# Altium integrated library Transistor.IntLib: 3457 symbols (part 22 of 78)
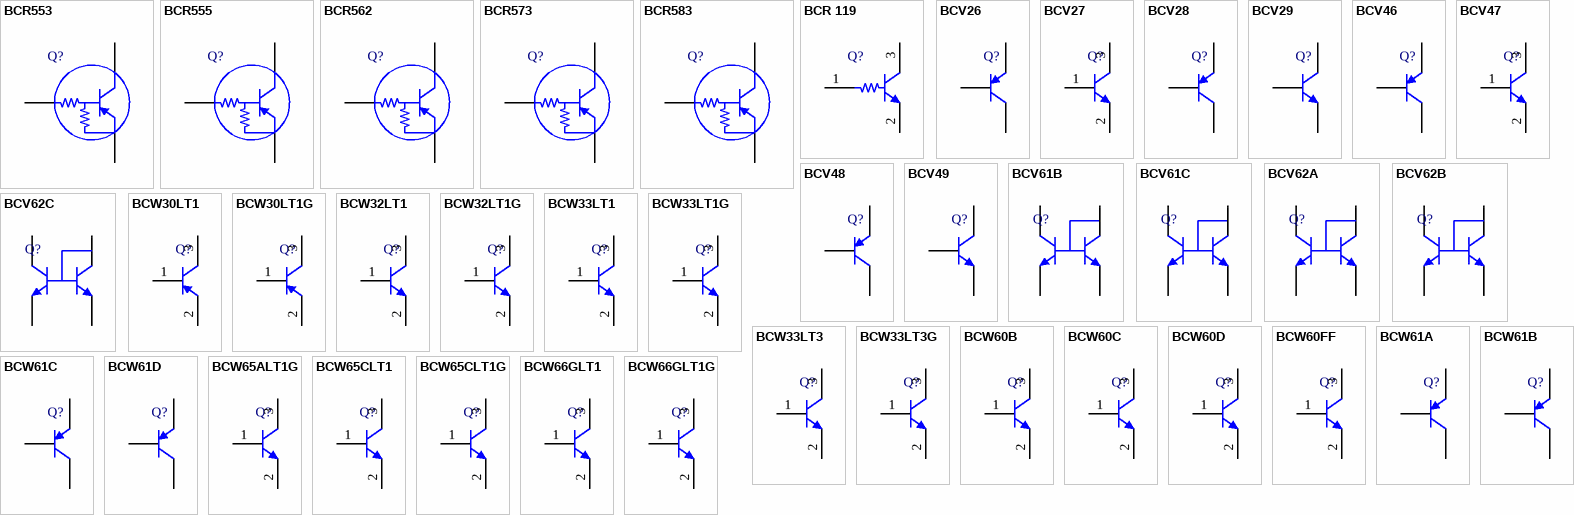
[diagram p115: symbols BCR553 to BCW66GLT1G]

## BCR555
designator Q?
PNP Silicon Digital Transistor, 50 V VCEO, 500 mA IC, SOT23, Reel, Green; Manufacturer: Infineon; PartNumber: BCR555; fT (typ): 150 MHz; Green: TRUE; hFE (min): 70; IC (max): 500 mA; ICBO (max): 100 nA; Ptot (max): 330 mW; R1 (typ): 2.2 kOhm; R2: 10 kOhm; VCBO (max): 50 V; VEBO (max): 5 V; Vi (off) (max): 1 100uA / 5V; Vi (on) (max): 1.4 V; Vi (on) (min): 0.5 10mA / 0.3V; PackageVersion: Apr-08; PackageReference: SOT23; PackageDescription: 3-Pin Small Outline Transistor Package, 1.3 x 2.9 mm Body, 0.95 mm Pitch; Supplier 1: Mouser; Supplier Part Number 1: N/A; Packing: Reel; Polarity: PNP; VCEO (max): 50 V; Mounting Technology: Surface Mount; ComponentLink1Description: Manufacturer URL; ComponentLink1URL: http://www.infineon.com/; ComponentLink2Description: Datasheet; ComponentLink2URL: http://www.infineon.com/dgdl/bcr555.pdf?folderId=db3a30431428a3730114407566730303&fileId=db3a30431428a37301144081dc82030c; ComponentLink3Description: Package Specification; ComponentLink3URL: http://www.infineon.com/dgdl/SOT23-Package_Overview.pdf?folderId=db3a30431936bc4b0119532290053c66&fileId=db3a30431936bc4b0119533468123c85
footprint INF-SOT23_N (SOT23, 3-Leads, Body 2.9x1.3 mm, Pitch 0.95 mm, IPC Medium Density)
footprint INF-SOT23_L (SOT23, 3-Leads, Body 2.9x1.3 mm, Pitch 0.95 mm, IPC High Density)
footprint INF-SOT23_M (SOT23, 3-Leads, Body 2.9x1.3 mm, Pitch 0.95 mm, IPC Low Density)
pins: 1 B, 2 E, 3 C

## BCR562
designator Q?
PNP Silicon Digital Transistor, 50 V VCEO, 500 mA IC, SOT23, Reel, Green; Manufacturer: Infineon; PartNumber: BCR562; fT (typ): 150 MHz; Green: TRUE; hFE (min): 60; IC (max): 500 mA; ICBO (max): 100 nA; Ptot (max): 330 mW; R1 (typ): 4.7 kOhm; VCBO (max): 50 V; VEBO (max): 10 V; Vi (off) (max): 1.5 100uA / 5V; Vi (on) (max): 2.2 V; Vi (on) (min): 1 10mA / 0.3V; PackageVersion: Apr-08; PackageReference: SOT23; PackageDescription: 3-Pin Small Outline Transistor Package, 1.3 x 2.9 mm Body, 0.95 mm Pitch; Supplier 1: Mouser; Supplier Part Number 1: N/A; Packing: Reel; Polarity: PNP; R2: 4.7 kOhm; VCEO (max): 50 V; Mounting Technology: Surface Mount; ComponentLink1Description: Manufacturer URL; ComponentLink1URL: http://www.infineon.com/; ComponentLink2Description: Datasheet; ComponentLink2URL: http://www.infineon.com/dgdl/bcr562.pdf?folderId=db3a30431428a3730114407566730303&fileId=db3a30431428a37301144082f4ed030d; ComponentLink3Description: Package Specification; ComponentLink3URL: http://www.infineon.com/dgdl/SOT23-Package_Overview.pdf?folderId=db3a30431936bc4b0119532290053c66&fileId=db3a30431936bc4b0119533468123c85
footprint INF-SOT23_N (SOT23, 3-Leads, Body 2.9x1.3 mm, Pitch 0.95 mm, IPC Medium Density)
footprint INF-SOT23_L (SOT23, 3-Leads, Body 2.9x1.3 mm, Pitch 0.95 mm, IPC High Density)
footprint INF-SOT23_M (SOT23, 3-Leads, Body 2.9x1.3 mm, Pitch 0.95 mm, IPC Low Density)
pins: 1 B, 2 E, 3 C

## BCR573
designator Q?
PNP Silicon Digital Transistor, 50 V VCEO, 500 mA IC, SOT23, Reel, Green; Manufacturer: Infineon; PartNumber: BCR573; fT (typ): 150 MHz; Green: TRUE; hFE (min): 70; IC (max): 500 mA; ICBO (max): 100 nA; Ptot (max): 330 mW; R1 (typ): 1 kOhm; R2: 10 kOhm; VCBO (max): 50 V; VEBO (max): 5 V; Vi (off) (max): 1 100uA / 5V; Vi (on) (max): 1.4 V; Vi (on) (min): 0.4 10mA / 0.3V; PackageVersion: Apr-08; PackageReference: SOT23; PackageDescription: 3-Pin Small Outline Transistor Package, 1.3 x 2.9 mm Body, 0.95 mm Pitch; Supplier 1: Mouser; Supplier Part Number 1: N/A; Packing: Reel; Polarity: PNP; VCEO (max): 50 V; Mounting Technology: Surface Mount; ComponentLink1Description: Manufacturer URL; ComponentLink1URL: http://www.infineon.com/; ComponentLink2Description: Datasheet; ComponentLink2URL: http://www.infineon.com/dgdl/bcr573.pdf?folderId=db3a30431428a373011440769fd70304&fileId=db3a30431428a373011440841409030e; ComponentLink3Description: Package Specification; ComponentLink3URL: http://www.infineon.com/dgdl/SOT23-Package_Overview.pdf?folderId=db3a30431936bc4b0119532290053c66&fileId=db3a30431936bc4b0119533468123c85
footprint INF-SOT23_N (SOT23, 3-Leads, Body 2.9x1.3 mm, Pitch 0.95 mm, IPC Medium Density)
footprint INF-SOT23_L (SOT23, 3-Leads, Body 2.9x1.3 mm, Pitch 0.95 mm, IPC High Density)
footprint INF-SOT23_M (SOT23, 3-Leads, Body 2.9x1.3 mm, Pitch 0.95 mm, IPC Low Density)
pins: 1 B, 2 E, 3 C

## BCR583
designator Q?
PNP Silicon Digital Transistor, 50 V VCEO, 500 mA IC, SOT23, Reel, Green; Manufacturer: Infineon; PartNumber: BCR583; fT (typ): 150 MHz; Green: TRUE; hFE (min): 70; IC (max): 500 mA; ICBO (max): 100 nA; Ptot (max): 330 mW; R1 (typ): 10 kOhm; VCBO (max): 50 V; VEBO (max): 10 V; Vi (off) (max): 1.5 100uA / 5V; Vi (on) (max): 2.5 V; Vi (on) (min): 1.1 10mA / 0.3V; PackageVersion: Apr-08; PackageReference: SOT23; PackageDescription: 3-Pin Small Outline Transistor Package, 1.3 x 2.9 mm Body, 0.95 mm Pitch; Supplier 1: Mouser; Supplier Part Number 1: N/A; Packing: Reel; Polarity: PNP; R2: 10 kOhm; VCEO (max): 50 V; Mounting Technology: Surface Mount; ComponentLink1Description: Manufacturer URL; ComponentLink1URL: http://www.infineon.com/; ComponentLink2Description: Datasheet; ComponentLink2URL: http://www.infineon.com/dgdl/bcr583.pdf?folderId=db3a30431428a373011440769fd70304&fileId=db3a30431428a3730114408538a1030f; ComponentLink3Description: Package Specification; ComponentLink3URL: http://www.infineon.com/dgdl/SOT23-Package_Overview.pdf?folderId=db3a30431936bc4b0119532290053c66&fileId=db3a30431936bc4b0119533468123c85
footprint INF-SOT23_N (SOT23, 3-Leads, Body 2.9x1.3 mm, Pitch 0.95 mm, IPC Medium Density)
footprint INF-SOT23_L (SOT23, 3-Leads, Body 2.9x1.3 mm, Pitch 0.95 mm, IPC High Density)
footprint INF-SOT23_M (SOT23, 3-Leads, Body 2.9x1.3 mm, Pitch 0.95 mm, IPC Low Density)
pins: 1 B, 2 E, 3 C

## BCR 119
designator Q?
NPN Silicon Digital Transistor, SOT23, Reel, Green; Manufacturer: Infineon; PartNumber: BCR 119; Green: TRUE; hFE (min): 120; PackageVersion: Apr-08; PackageReference: SOT23; PackageDescription: 3-Pin Small Outline Transistor Package, 1.3 x 2.9 mm Body, 0.95 mm Pitch; Halogen-free: FALSE; Polarity: NPN; Mounting Technology: Surface Mount; ComponentLink1Description: Manufacturer URL; ComponentLink1URL: http://www.infineon.com/; ComponentLink2Description: Datasheet; ComponentLink2URL: http://www.infineon.com/dgdl/bcr119series.pdf?folderId=db3a30431400ef68011406f3ddb1012e&fileId=db3a30431428a37301143f643b380286; ComponentLink3Description: Package Specification; ComponentLink3URL: http://www.infineon.com/dgdl/smbta14_mmbta14.pdf?folderId=db3a30431441fb5d011445c30f210183&fileId=db3a30431441fb5d011445ef0201018c
footprint INF-SOT23_N (SOT23, 3-Leads, Body 2.9x1.3 mm, Pitch 0.95 mm, IPC Medium Density)
footprint INF-SOT23_L (SOT23, 3-Leads, Body 2.9x1.3 mm, Pitch 0.95 mm, IPC High Density)
footprint INF-SOT23_M (SOT23, 3-Leads, Body 2.9x1.3 mm, Pitch 0.95 mm, IPC Low Density)
pins: 1 B, 2 E, 3 C

## BCV26
designator Q?
PNP Silicon Darlington Transistor, 30 V VCEO, 500 mA IC, SOT23, Reel, Green; Manufacturer: Infineon; PartNumber: BCV26; fT (typ): 200 MHz; Green: TRUE; hFE (min): 4000; IC: 100 mA; IC (max): 500 mA; ICBO (max): 10 uA; ICM (max): 800 mA; VCBO (max): 40 V; VCE: 5 V; VCEO (max): 30 V; VEBO (max): 10 V; PackageVersion: Apr-08; PackageReference: SOT23; PackageDescription: 3-Pin Small Outline Transistor Package, 1.3 x 2.9 mm Body, 0.95 mm Pitch; Packing: Reel; Polarity: PNP; Mounting Technology: Surface Mount; ComponentLink1Description: Manufacturer URL; ComponentLink1URL: http://www.infineon.com/; ComponentLink2Description: Datasheet; ComponentLink2URL: http://www.infineon.com/dgdl/bcv26_bcv46.pdf?folderId=db3a30431441fb5d011445c30f210183&fileId=db3a30431441fb5d011445cddad90187; ComponentLink3Description: Package Specification; ComponentLink3URL: http://www.infineon.com/dgdl/SOT23-Package_Overview.pdf?folderId=db3a30431936bc4b0119532290053c66&fileId=db3a30431936bc4b0119533468123c85
footprint INF-SOT23_N (SOT23, 3-Leads, Body 2.9x1.3 mm, Pitch 0.95 mm, IPC Medium Density)
footprint INF-SOT23_L (SOT23, 3-Leads, Body 2.9x1.3 mm, Pitch 0.95 mm, IPC High Density)
footprint INF-SOT23_M (SOT23, 3-Leads, Body 2.9x1.3 mm, Pitch 0.95 mm, IPC Low Density)
pins: 1 B, 2 E, 3 C

## BCV27
designator Q?
NPN Silicon Darlington Transistor, 30 V VCEO, 500 mA IC, SOT23, Reel, Green; Manufacturer: Infineon; PartNumber: BCV27; fT (typ): 170 MHz; Green: TRUE; hFE (min): 4000; IC: 100 mA; IC (max): 500 mA; ICBO (max): 10 uA; ICM (max): 800 mA; VCBO (max): 40 V; VCE: 5 V; VCEO (max): 30 V; VEBO (max): 10 V; PackageVersion: Apr-08; PackageReference: SOT23; PackageDescription: 3-Pin Small Outline Transistor Package, 1.3 x 2.9 mm Body, 0.95 mm Pitch; Packing: Reel; Polarity: NPN; Mounting Technology: Surface Mount; ComponentLink1Description: Manufacturer URL; ComponentLink1URL: http://www.infineon.com/; ComponentLink2Description: Datasheet; ComponentLink2URL: http://www.infineon.com/dgdl/bcv27_bcv47.pdf?folderId=db3a30431441fb5d011445c30f210183&fileId=db3a30431441fb5d011445cf7c3b0188; ComponentLink3Description: Package Specification; ComponentLink3URL: http://www.infineon.com/dgdl/SOT23-Package_Overview.pdf?folderId=db3a30431936bc4b0119532290053c66&fileId=db3a30431936bc4b0119533468123c85
footprint INF-SOT23_N (SOT23, 3-Leads, Body 2.9x1.3 mm, Pitch 0.95 mm, IPC Medium Density)
footprint INF-SOT23_L (SOT23, 3-Leads, Body 2.9x1.3 mm, Pitch 0.95 mm, IPC High Density)
footprint INF-SOT23_M (SOT23, 3-Leads, Body 2.9x1.3 mm, Pitch 0.95 mm, IPC Low Density)
pins: 1 B, 2 E, 3 C

## BCV28
designator Q?
PNP Silicon Darlington Transistor, 30 V VCEO, 500 mA IC, SOT89, Reel, Green; Manufacturer: Infineon; PartNumber: BCV28; fT (typ): 200 MHz; Green: TRUE; hFE (min): 4000; IC: 100 mA; IC (max): 500 mA; ICBO (max): 10 uA; ICM (max): 800 mA; VCBO (max): 40 V; VCE: 5 V; VCEO (max): 30 V; VEBO (max): 10 V; PackageVersion: Apr-08; PackageReference: SOT89 (SC-62); PackageDescription: 3-Pin Small Outline Transistor Package, 4.5 x 2.5 mm Body, 1.5 mm Pitch; Packing: Reel; Polarity: PNP; Mounting Technology: Surface Mount; ComponentLink1Description: Manufacturer URL; ComponentLink1URL: http://www.infineon.com/; ComponentLink2Description: Datasheet; ComponentLink2URL: http://www.infineon.com/dgdl/bcv28_bcv48.pdf?folderId=db3a30431441fb5d011445c30f210183&fileId=db3a30431441fb5d011445c71a9d0185; ComponentLink3Description: Package Specification; ComponentLink3URL: http://www.infineon.com/dgdl/SOT89-Package_Overview.pdf?folderId=db3a30431936bc4b01195371b8363cff&fileId=db3a30431936bc4b0119537ed61d3d22
footprint INF-SOT89_SC-62_N (SOT89, 3-Leads, Body 4.5x2.5mm, Pitch 1.5mm, IPC Medium Density)
footprint INF-SOT89_SC-62_L (SOT89, 3-Leads, Body 4.5x2.5mm, Pitch 1.5mm, IPC High Density)
footprint INF-SOT89_SC-62_M (SOT89, 3-Leads, Body 4.5x2.5mm, Pitch 1.5mm, IPC Low Density)
pins: 1 B, 2 C, 3 E

## BCV29
designator Q?
NPN Silicon Darlington Transistor, 30 V VCEO, 500 mA IC, SOT89, Reel, Green; Manufacturer: Infineon; PartNumber: BCV29; fT (typ): 150 MHz; Green: TRUE; hFE (min): 4000; IC: 100 mA; IC (max): 500 mA; ICBO (max): 10 uA; ICM (max): 800 mA; VCBO (max): 40 V; VCE: 5 V; VCEO (max): 30 V; VEBO (max): 10 V; PackageVersion: Apr-08; PackageReference: SOT89 (SC-62); PackageDescription: 3-Pin Small Outline Transistor Package, 4.5 x 2.5 mm Body, 1.5 mm Pitch; Packing: Reel; Polarity: NPN; Mounting Technology: Surface Mount; ComponentLink1Description: Manufacturer URL; ComponentLink1URL: http://www.infineon.com/; ComponentLink2Description: Datasheet; ComponentLink2URL: http://www.infineon.com/dgdl/bcv29_bcv49.pdf?folderId=db3a30431441fb5d011445c30f210183&fileId=db3a30431441fb5d011445c8b0d30186; ComponentLink3Description: Package Specification; ComponentLink3URL: http://www.infineon.com/dgdl/SOT89-Package_Overview.pdf?folderId=db3a30431936bc4b01195371b8363cff&fileId=db3a30431936bc4b0119537ed61d3d22
footprint INF-SOT89_SC-62_N (SOT89, 3-Leads, Body 4.5x2.5mm, Pitch 1.5mm, IPC Medium Density)
footprint INF-SOT89_SC-62_L (SOT89, 3-Leads, Body 4.5x2.5mm, Pitch 1.5mm, IPC High Density)
footprint INF-SOT89_SC-62_M (SOT89, 3-Leads, Body 4.5x2.5mm, Pitch 1.5mm, IPC Low Density)
pins: 1 B, 2 C, 3 E

## BCV46
designator Q?
PNP Silicon Darlington Transistor, 60 V VCEO, 500 mA IC, SOT23, Reel, Green; Manufacturer: Infineon; PartNumber: BCV46; fT (typ): 200 MHz; Green: TRUE; hFE (min): 2000; IC: 100 mA; IC (max): 500 mA; ICBO (max): 10 uA; ICM (max): 800 mA; VCBO (max): 80 V; VCE: 5 V; VCEO (max): 60 V; VEBO (max): 10 V; PackageVersion: Apr-08; PackageReference: SOT23; PackageDescription: 3-Pin Small Outline Transistor Package, 1.3 x 2.9 mm Body, 0.95 mm Pitch; Packing: Reel; Polarity: PNP; Mounting Technology: Surface Mount; ComponentLink1Description: Manufacturer URL; ComponentLink1URL: http://www.infineon.com/; ComponentLink2Description: Datasheet; ComponentLink2URL: http://www.infineon.com/dgdl/bcv26_bcv46.pdf?folderId=db3a30431441fb5d011445c30f210183&fileId=db3a30431441fb5d011445cddad90187; ComponentLink3Description: Package Specification; ComponentLink3URL: http://www.infineon.com/dgdl/SOT23-Package_Overview.pdf?folderId=db3a30431936bc4b0119532290053c66&fileId=db3a30431936bc4b0119533468123c85
footprint INF-SOT23_N (SOT23, 3-Leads, Body 2.9x1.3 mm, Pitch 0.95 mm, IPC Medium Density)
footprint INF-SOT23_L (SOT23, 3-Leads, Body 2.9x1.3 mm, Pitch 0.95 mm, IPC High Density)
footprint INF-SOT23_M (SOT23, 3-Leads, Body 2.9x1.3 mm, Pitch 0.95 mm, IPC Low Density)
pins: 1 B, 2 E, 3 C

## BCV47
designator Q?
NPN Silicon Darlington Transistor, 60 V VCEO, 500 mA IC, SOT23, Reel, Green; Manufacturer: Infineon; PartNumber: BCV47; fT (typ): 170 MHz; Green: TRUE; hFE (min): 2000; IC: 100 mA; IC (max): 500 mA; ICBO (max): 10 uA; ICM (max): 800 mA; VCBO (max): 80 V; VCE: 5 V; VCEO (max): 60 V; VEBO (max): 10 V; PackageVersion: Apr-08; PackageReference: SOT23; PackageDescription: 3-Pin Small Outline Transistor Package, 1.3 x 2.9 mm Body, 0.95 mm Pitch; Packing: Reel; Polarity: NPN; Mounting Technology: Surface Mount; ComponentLink1Description: Manufacturer URL; ComponentLink1URL: http://www.infineon.com/; ComponentLink2Description: Datasheet; ComponentLink2URL: http://www.infineon.com/dgdl/bcv27_bcv47.pdf?folderId=db3a30431441fb5d011445c30f210183&fileId=db3a30431441fb5d011445cf7c3b0188; ComponentLink3Description: Package Specification; ComponentLink3URL: http://www.infineon.com/dgdl/SOT23-Package_Overview.pdf?folderId=db3a30431936bc4b0119532290053c66&fileId=db3a30431936bc4b0119533468123c85
footprint INF-SOT23_N (SOT23, 3-Leads, Body 2.9x1.3 mm, Pitch 0.95 mm, IPC Medium Density)
footprint INF-SOT23_L (SOT23, 3-Leads, Body 2.9x1.3 mm, Pitch 0.95 mm, IPC High Density)
footprint INF-SOT23_M (SOT23, 3-Leads, Body 2.9x1.3 mm, Pitch 0.95 mm, IPC Low Density)
pins: 1 B, 2 E, 3 C

## BCV48
designator Q?
PNP Silicon Darlington Transistor, 60 V VCEO, 500 mA IC, SOT89, Reel, Green; Manufacturer: Infineon; PartNumber: BCV48; fT (typ): 200 MHz; Green: TRUE; hFE (min): 2000; IC: 100 mA; IC (max): 500 mA; ICBO (max): 10 uA; ICM (max): 800 mA; VCBO (max): 80 V; VCE: 5 V; VCEO (max): 60 V; VEBO (max): 10 V; PackageVersion: Apr-08; PackageReference: SOT89 (SC-62); PackageDescription: 3-Pin Small Outline Transistor Package, 4.5 x 2.5 mm Body, 1.5 mm Pitch; Packing: Reel; Polarity: PNP; Mounting Technology: Surface Mount; ComponentLink1Description: Manufacturer URL; ComponentLink1URL: http://www.infineon.com/; ComponentLink2Description: Datasheet; ComponentLink2URL: http://www.infineon.com/dgdl/bcv28_bcv48.pdf?folderId=db3a30431441fb5d011445c30f210183&fileId=db3a30431441fb5d011445c71a9d0185; ComponentLink3Description: Package Specification; ComponentLink3URL: http://www.infineon.com/dgdl/SOT89-Package_Overview.pdf?folderId=db3a30431936bc4b01195371b8363cff&fileId=db3a30431936bc4b0119537ed61d3d22
footprint INF-SOT89_SC-62_N (SOT89, 3-Leads, Body 4.5x2.5mm, Pitch 1.5mm, IPC Medium Density)
footprint INF-SOT89_SC-62_L (SOT89, 3-Leads, Body 4.5x2.5mm, Pitch 1.5mm, IPC High Density)
footprint INF-SOT89_SC-62_M (SOT89, 3-Leads, Body 4.5x2.5mm, Pitch 1.5mm, IPC Low Density)
pins: 1 B, 2 C, 3 E

## BCV49
designator Q?
NPN Silicon Darlington Transistor, 60 V VCEO, 500 mA IC, SOT89, Reel, Green; Manufacturer: Infineon; PartNumber: BCV49; fT (typ): 150 MHz; Green: TRUE; hFE (min): 2000; IC: 100 mA; IC (max): 500 mA; ICBO (max): 10 uA; ICM (max): 800 mA; VCBO (max): 80 V; VCE: 5 V; VCEO (max): 60 V; VEBO (max): 10 V; PackageVersion: Apr-08; PackageReference: SOT89 (SC-62); PackageDescription: 3-Pin Small Outline Transistor Package, 4.5 x 2.5 mm Body, 1.5 mm Pitch; Packing: Reel; Polarity: NPN; Mounting Technology: Surface Mount; ComponentLink1Description: Manufacturer URL; ComponentLink1URL: http://www.infineon.com/; ComponentLink2Description: Datasheet; ComponentLink2URL: http://www.infineon.com/dgdl/bcv29_bcv49.pdf?folderId=db3a30431441fb5d011445c30f210183&fileId=db3a30431441fb5d011445c8b0d30186; ComponentLink3Description: Package Specification; ComponentLink3URL: http://www.infineon.com/dgdl/SOT89-Package_Overview.pdf?folderId=db3a30431936bc4b01195371b8363cff&fileId=db3a30431936bc4b0119537ed61d3d22
footprint INF-SOT89_SC-62_N (SOT89, 3-Leads, Body 4.5x2.5mm, Pitch 1.5mm, IPC Medium Density)
footprint INF-SOT89_SC-62_L (SOT89, 3-Leads, Body 4.5x2.5mm, Pitch 1.5mm, IPC High Density)
footprint INF-SOT89_SC-62_M (SOT89, 3-Leads, Body 4.5x2.5mm, Pitch 1.5mm, IPC Low Density)
pins: 1 B, 2 C, 3 E

## BCV61B
designator Q?
NPN Silicon Double Transistor, 30 V VCEO, 100 mA IC, SOT143-4-1, Reel, Green; Manufacturer: Infineon; PartNumber: BCV61B; fT (typ): 250 MHz; Green: TRUE; IC: 2 mA; IC (max): 100 mA; ICBO (max): 15 nA; ICM (max): 200 mA; Ptot (max): 300 mW; VCBO (max): 30 V; VCE: 5 V; VEBO (max): 6 V; PackageReference: SOT143-4-1; PackageDescription: 4-Pin Small Outline Transistor Package, 1.3 x 2.9 mm Body; Packing: Reel; Polarity: NPN; VCE (max): 5 V; VCEO (max): 30 V; Mounting Technology: Surface Mount; ComponentLink1Description: Manufacturer URL; ComponentLink1URL: http://www.infineon.com/; ComponentLink2Description: Datasheet; ComponentLink2URL: http://www.infineon.com/dgdl/bcv61.pdf?folderId=db3a30431441fb5d0114498f7eab01ce&fileId=db3a30431441fb5d011449d8ff720246; ComponentLink3Description: Package Specification; ComponentLink3URL: http://www.infineon.com/dgdl/SOT143-Package_Overview.pdf?folderId=db3a30431936bc4b011952ce8b1b3bed&fileId=db3a30431936bc4b011952df42203c0c
footprint INF-SOT143-4-1_V (SOT143, 4-Leads, Body 2.9x1.3 mm)
pins: 1 C2, 2 C1, 3 E1, 4 E2

## BCV61C
designator Q?
NPN Silicon Double Transistor, 30 V VCEO, 100 mA IC, SOT143-4-1, Reel, Green; Manufacturer: Infineon; PartNumber: BCV61C; fT (typ): 250 MHz; Green: TRUE; IC: 2 mA; IC (max): 100 mA; ICBO (max): 15 nA; ICM (max): 200 mA; Ptot (max): 300 mW; VCBO (max): 30 V; VCE: 5 V; VEBO (max): 6 V; PackageReference: SOT143-4-1; PackageDescription: 4-Pin Small Outline Transistor Package, 1.3 x 2.9 mm Body; Supplier 1: Newark; Supplier Part Number 1: 25M7679; Supplier 2: Farnell; Supplier Part Number 2: 1056514; Supplier 3: Farnell; Supplier Part Number 3: 1056514RL; Packing: Reel; Polarity: NPN; VCE (max): 5 V; VCEO (max): 30 V; Mounting Technology: Surface Mount; ComponentLink1Description: Manufacturer URL; ComponentLink1URL: http://www.infineon.com/; ComponentLink2Description: Datasheet; ComponentLink2URL: http://www.infineon.com/dgdl/bcv61.pdf?folderId=db3a30431441fb5d0114498f7eab01ce&fileId=db3a30431441fb5d011449d8ff720246; ComponentLink3Description: Package Specification; ComponentLink3URL: http://www.infineon.com/dgdl/SOT143-Package_Overview.pdf?folderId=db3a30431936bc4b011952ce8b1b3bed&fileId=db3a30431936bc4b011952df42203c0c
footprint INF-SOT143-4-1_V (SOT143, 4-Leads, Body 2.9x1.3 mm)
pins: 1 C2, 2 C1, 3 E1, 4 E2

## BCV62A
designator Q?
PNP Silicon Double Transistor, 30 V VCEO, 100 mA IC, SOT143-4-1, Reel, Green; Manufacturer: Infineon; PartNumber: BCV62A; fT (typ): 250 MHz; Green: TRUE; IC: 2 mA; IC (max): 100 mA; ICBO (max): 15 nA; ICM (max): 200 mA; Ptot (max): 300 mW; VCBO (max): 30 V; VCE: 5 V; VEBO (max): 6 V; PackageReference: SOT143-4-1; PackageDescription: 4-Pin Small Outline Transistor Package, 1.3 x 2.9 mm Body; Packing: Reel; Polarity: PNP; VCE (max): 5 V; VCEO (max): 30 V; Mounting Technology: Surface Mount; ComponentLink1Description: Manufacturer URL; ComponentLink1URL: http://www.infineon.com/; ComponentLink2Description: Datasheet; ComponentLink2URL: http://www.infineon.com/dgdl/bcv62.pdf?folderId=db3a30431441fb5d0114498f7eab01ce&fileId=db3a30431441fb5d011449a5795f0230; ComponentLink3Description: Package Specification; ComponentLink3URL: http://www.infineon.com/dgdl/SOT143-Package_Overview.pdf?folderId=db3a30431936bc4b011952ce8b1b3bed&fileId=db3a30431936bc4b011952df42203c0c
footprint INF-SOT143-4-1_V (SOT143, 4-Leads, Body 2.9x1.3 mm)
pins: 1 C2, 2 C1, 3 E1, 4 E2

## BCV62B
designator Q?
PNP Silicon Double Transistor, 30 V VCEO, 100 mA IC, SOT143-4-1, Reel, Green; Manufacturer: Infineon; PartNumber: BCV62B; fT (typ): 250 MHz; Green: TRUE; IC: 2 mA; IC (max): 100 mA; ICBO (max): 15 nA; ICM (max): 200 mA; Ptot (max): 300 mW; VCBO (max): 30 V; VCE: 5 V; VEBO (max): 6 V; PackageReference: SOT143-4-1; PackageDescription: 4-Pin Small Outline Transistor Package, 1.3 x 2.9 mm Body; Packing: Reel; Polarity: PNP; VCE (max): 5 V; VCEO (max): 30 V; Mounting Technology: Surface Mount; ComponentLink1Description: Manufacturer URL; ComponentLink1URL: http://www.infineon.com/; ComponentLink2Description: Datasheet; ComponentLink2URL: http://www.infineon.com/dgdl/bcv62.pdf?folderId=db3a30431441fb5d0114498f7eab01ce&fileId=db3a30431441fb5d011449a5795f0230; ComponentLink3Description: Package Specification; ComponentLink3URL: http://www.infineon.com/dgdl/SOT143-Package_Overview.pdf?folderId=db3a30431936bc4b011952ce8b1b3bed&fileId=db3a30431936bc4b011952df42203c0c
footprint INF-SOT143-4-1_V (SOT143, 4-Leads, Body 2.9x1.3 mm)
pins: 1 C2, 2 C1, 3 E1, 4 E2

## BCV62C
designator Q?
PNP Silicon Double Transistor, 30 V VCEO, 100 mA IC, SOT143-4-1, Reel, Green; Manufacturer: Infineon; PartNumber: BCV62C; fT (typ): 250 MHz; Green: TRUE; IC: 100 mA; ICBO (max): 15 nA; ICM (max): 200 mA; Ptot (max): 300 mV; VCBO (max): 30 V; VCE: 5 V; VEBO (max): 6 V; PackageReference: SOT143-4-1; PackageDescription: 4-Pin Small Outline Transistor Package, 1.3 x 2.9 mm Body; Supplier 1: Newark; Supplier Part Number 1: 25M7681; Supplier 2: Farnell; Supplier Part Number 2: 1056515RL; Supplier 3: Farnell; Supplier Part Number 3: 1056515; IC (max): 100 mA; Packing: Reel; Polarity: PNP; VCE (max): 5 V; VCEO (max): 30 V; Mounting Technology: Surface Mount; ComponentLink1Description: Manufacturer URL; ComponentLink1URL: http://www.infineon.com/; ComponentLink2Description: Datasheet; ComponentLink2URL: http://www.infineon.com/dgdl/bcv62.pdf?folderId=db3a30431441fb5d0114498f7eab01ce&fileId=db3a30431441fb5d011449a5795f0230; ComponentLink3Description: Package Specification; ComponentLink3URL: http://www.infineon.com/dgdl/SOT143-Package_Overview.pdf?folderId=db3a30431936bc4b011952ce8b1b3bed&fileId=db3a30431936bc4b011952df42203c0c
footprint INF-SOT143-4-1_V (SOT143, 4-Leads, Body 2.9x1.3 mm)
pins: 1 C2, 2 C1, 3 E1, 4 E2

## BCW30LT1
designator Q?
General Purpose Transistor, PNP Silicon, 3-Pin SOT-23, Tape and Reel; Manufacturer: On Semiconductor; PartNumber: BCW30LT1; Note: 0; IC Continuous (A): -0.1; DatasheetVersion: Rev. 3; PackageVersion: Rev. AP, 11/2009; PackageReference: SOT-23-3-318-08; PackageDescription: 3-Pin Small Outline Transistor, Body 2.92 x 1.3 mm, Pitch 0.95 mm; Packing: Tape and Reel; Polarity: PNP; RoHS: FALSE; Mounting Technology: Surface Mount; ComponentLink1Description: Manufacturer URL; ComponentLink1URL: http://www.onsemi.com/; ComponentLink2Description: Datasheet; ComponentLink2URL: http://www.onsemi.com/pub_link/Collateral/BCW30LT1-D.PDF; ComponentLink3Description: Package Specification; ComponentLink3URL: http://www.onsemi.cn/pub_link/Collateral/318-08.PDF
footprint ONSC-SOT-23-3-318-08_V (SOT23, 3-Leads, Body 2.92x1.3mm, Pitch 0.95mm)
pins: 1 B, 2 E, 3 C

## BCW30LT1G
designator Q?
General Purpose Transistor, PNP Silicon, 3-Pin SOT-23, Pb-Free, Tape and Reel; Manufacturer: On Semiconductor; PartNumber: BCW30LT1G; IC Continuous (A): -0.1; DatasheetVersion: Rev. 3; PackageVersion: Rev. AP, 11/2009; PackageReference: SOT-23-3-318-08; PackageDescription: 3-Pin Small Outline Transistor, Body 2.92 x 1.3 mm, Pitch 0.95 mm; Supplier 1: Digi-Key; Supplier Part Number 1: BCW30LT1GOSTR-ND; Supplier 2: Digi-Key; Supplier Part Number 2: BCW30LT1GOSCT-ND; Supplier 3: Digi-Key; Supplier Part Number 3: BCW30LT1GOSDKR-ND; Supplier 4: Newark; Supplier Part Number 4: 83H6424; Supplier 5: Mouser; Supplier Part Number 5: 863-BCW30LT1G; Packing: Tape and Reel; Polarity: PNP; RoHS: TRUE; Mounting Technology: Surface Mount; ComponentLink1Description: Manufacturer URL; ComponentLink1URL: http://www.onsemi.com/; ComponentLink2Description: Datasheet; ComponentLink2URL: http://www.onsemi.com/pub_link/Collateral/BCW30LT1-D.PDF; ComponentLink3Description: Package Specification; ComponentLink3URL: http://www.onsemi.cn/pub_link/Collateral/318-08.PDF
footprint ONSC-SOT-23-3-318-08_V (SOT23, 3-Leads, Body 2.92x1.3mm, Pitch 0.95mm)
pins: 1 B, 2 E, 3 C

## BCW32LT1
designator Q?
General Purpose Transistor, NPN Silicon, 3-Pin SOT-23, Tape and Reel; Manufacturer: On Semiconductor; PartNumber: BCW32LT1; Note: 0; IC Continuous (A): 0.1; DatasheetVersion: Rev. 2; PackageVersion: Rev. AP, 11/2009; PackageReference: SOT-23-3-318-08; PackageDescription: 3-Pin Small Outline Transistor, Body 2.92 x 1.3 mm, Pitch 0.95 mm; Packing: Tape and Reel; Polarity: NPN; RoHS: FALSE; Mounting Technology: Surface Mount; ComponentLink1Description: Manufacturer URL; ComponentLink1URL: http://www.onsemi.com/; ComponentLink2Description: Datasheet; ComponentLink2URL: http://www.onsemi.com/pub_link/Collateral/BCW32LT1-D.PDF; ComponentLink3Description: Package Specification; ComponentLink3URL: http://www.onsemi.cn/pub_link/Collateral/318-08.PDF
footprint ONSC-SOT-23-3-318-08_V (SOT23, 3-Leads, Body 2.92x1.3mm, Pitch 0.95mm)
pins: 1 B, 2 E, 3 C

## BCW32LT1G
designator Q?
General Purpose Transistor, NPN Silicon, 3-Pin SOT-23, Pb-Free, Tape and Reel; Manufacturer: On Semiconductor; PartNumber: BCW32LT1G; IC Continuous (A): 0.1; DatasheetVersion: Rev. 2; PackageVersion: Rev. AP, 11/2009; PackageReference: SOT-23-3-318-08; PackageDescription: 3-Pin Small Outline Transistor, Body 2.92 x 1.3 mm, Pitch 0.95 mm; Supplier 1: Digi-Key; Supplier Part Number 1: BCW32LT1GOSTR-ND; Supplier 2: Digi-Key; Supplier Part Number 2: BCW32LT1GOSCT-ND; Supplier 3: Digi-Key; Supplier Part Number 3: BCW32LT1GOSDKR-ND; Supplier 4: Newark; Supplier Part Number 4: 50M2870; Supplier 5: Mouser; Supplier Part Number 5: 863-BCW32LT1G; Packing: Tape and Reel; Polarity: NPN; RoHS: TRUE; Mounting Technology: Surface Mount; ComponentLink1Description: Manufacturer URL; ComponentLink1URL: http://www.onsemi.com/; ComponentLink2Description: Datasheet; ComponentLink2URL: http://www.onsemi.com/pub_link/Collateral/BCW32LT1-D.PDF; ComponentLink3Description: Package Specification; ComponentLink3URL: http://www.onsemi.cn/pub_link/Collateral/318-08.PDF
footprint ONSC-SOT-23-3-318-08_V (SOT23, 3-Leads, Body 2.92x1.3mm, Pitch 0.95mm)
pins: 1 B, 2 E, 3 C

## BCW33LT1
designator Q?
General Purpose Transistor, NPN Silicon, 3-Pin SOT-23, Tape and Reel; Manufacturer: On Semiconductor; PartNumber: BCW33LT1; IC Continuous (A): 0.1; DatasheetVersion: Rev. 5; PackageVersion: Rev. AP, 11/2009; PackageReference: SOT-23-3-318-08; PackageDescription: 3-Pin Small Outline Transistor, Body 2.92 x 1.3 mm, Pitch 0.95 mm; Supplier 1: Digi-Key; Supplier Part Number 1: BCW33LT1-ND; Packing: Tape and Reel; Polarity: NPN; RoHS: FALSE; Mounting Technology: Surface Mount; ComponentLink1Description: Manufacturer URL; ComponentLink1URL: http://www.onsemi.com/; ComponentLink2Description: Datasheet; ComponentLink2URL: http://www.onsemi.com/pub_link/Collateral/BCW33LT1-D.PDF; ComponentLink3Description: Package Specification; ComponentLink3URL: http://www.onsemi.cn/pub_link/Collateral/318-08.PDF
footprint ONSC-SOT-23-3-318-08_V (SOT23, 3-Leads, Body 2.92x1.3mm, Pitch 0.95mm)
pins: 1 B, 2 E, 3 C

## BCW33LT1G
designator Q?
General Purpose Transistor, NPN Silicon, 3-Pin SOT-23, Pb-Free, Tape and Reel; Manufacturer: On Semiconductor; PartNumber: BCW33LT1G; IC Continuous (A): 0.1; DatasheetVersion: Rev. 5; PackageVersion: Rev. AP, 11/2009; PackageReference: SOT-23-3-318-08; PackageDescription: 3-Pin Small Outline Transistor, Body 2.92 x 1.3 mm, Pitch 0.95 mm; Supplier 1: Digi-Key; Supplier Part Number 1: BCW33LT1GOSTR-ND; Supplier 2: Digi-Key; Supplier Part Number 2: BCW33LT1GOSCT-ND; Supplier 3: Digi-Key; Supplier Part Number 3: BCW33LT1GOSDKR-ND; Supplier 4: Newark; Supplier Part Number 4: 26K3374; Supplier 5: Mouser; Supplier Part Number 5: 863-BCW33LT1G; Packing: Tape and Reel; Polarity: NPN; RoHS: TRUE; Mounting Technology: Surface Mount; ComponentLink1Description: Manufacturer URL; ComponentLink1URL: http://www.onsemi.com/; ComponentLink2Description: Datasheet; ComponentLink2URL: http://www.onsemi.com/pub_link/Collateral/BCW33LT1-D.PDF; ComponentLink3Description: Package Specification; ComponentLink3URL: http://www.onsemi.cn/pub_link/Collateral/318-08.PDF
footprint ONSC-SOT-23-3-318-08_V (SOT23, 3-Leads, Body 2.92x1.3mm, Pitch 0.95mm)
pins: 1 B, 2 E, 3 C

## BCW33LT3
designator Q?
General Purpose Transistor, NPN Silicon, 3-Pin SOT-23, Tape and Reel; Manufacturer: On Semiconductor; PartNumber: BCW33LT3; IC Continuous (A): 0.1; DatasheetVersion: Rev. 5; PackageVersion: Rev. AP, 11/2009; PackageReference: SOT-23-3-318-08; PackageDescription: 3-Pin Small Outline Transistor, Body 2.92 x 1.3 mm, Pitch 0.95 mm; Supplier 1: Mouser; Supplier Part Number 1: 863-BCW33LT3; Packing: Tape and Reel; Polarity: NPN; RoHS: FALSE; Mounting Technology: Surface Mount; ComponentLink1Description: Manufacturer URL; ComponentLink1URL: http://www.onsemi.com/; ComponentLink2Description: Datasheet; ComponentLink2URL: http://www.onsemi.com/pub_link/Collateral/BCW33LT1-D.PDF; ComponentLink3Description: Package Specification; ComponentLink3URL: http://www.onsemi.cn/pub_link/Collateral/318-08.PDF
footprint ONSC-SOT-23-3-318-08_V (SOT23, 3-Leads, Body 2.92x1.3mm, Pitch 0.95mm)
pins: 1 B, 2 E, 3 C

## BCW33LT3G
designator Q?
General Purpose Transistor, NPN Silicon, 3-Pin SOT-23, Pb-Free, Tape and Reel; Manufacturer: On Semiconductor; PartNumber: BCW33LT3G; IC Continuous (A): 0.1; DatasheetVersion: Rev. 5; PackageVersion: Rev. AP, 11/2009; PackageReference: SOT-23-3-318-08; PackageDescription: 3-Pin Small Outline Transistor, Body 2.92 x 1.3 mm, Pitch 0.95 mm; Supplier 1: Digi-Key; Supplier Part Number 1: BCW33LT3G-ND; Supplier 2: Mouser; Supplier Part Number 2: 863-BCW33LT3G; Packing: Tape and Reel; Polarity: NPN; RoHS: TRUE; Mounting Technology: Surface Mount; ComponentLink1Description: Manufacturer URL; ComponentLink1URL: http://www.onsemi.com/; ComponentLink2Description: Datasheet; ComponentLink2URL: http://www.onsemi.com/pub_link/Collateral/BCW33LT1-D.PDF; ComponentLink3Description: Package Specification; ComponentLink3URL: http://www.onsemi.cn/pub_link/Collateral/318-08.PDF
footprint ONSC-SOT-23-3-318-08_V (SOT23, 3-Leads, Body 2.92x1.3mm, Pitch 0.95mm)
pins: 1 B, 2 E, 3 C

## BCW60B
designator Q?
NPN Silicon AF Transistor, 32 V VCEO, 100 mA IC, SOT23, Reel, Green; Manufacturer: Infineon; PartNumber: BCW60B; F (typ): 2 dB; fT (typ): 250 MHz; Green: TRUE; IBM (max): 200 mA; IC (max): 100 mA; ICBO (max): 20 nA; Ptot (max): 330 mW; VCBO (max): 32 V; VEBO (max): 6 V; PackageVersion: Apr-08; PackageReference: SOT23; PackageDescription: 3-Pin Small Outline Transistor Package, 1.3 x 2.9 mm Body, 0.95 mm Pitch; ICM (max): 200 mA; Packing: Reel; Polarity: NPN; VCEO (max): 32 V; Mounting Technology: Surface Mount; ComponentLink1Description: Manufacturer URL; ComponentLink1URL: http://www.infineon.com/; ComponentLink2Description: Datasheet; ComponentLink2URL: http://www.infineon.com/dgdl/bcw60_bcx70.pdf?folderId=db3a30431f848401011fcbf2ab4c04c4&fileId=db3a30432f91014f012fb516e6041665; ComponentLink3Description: Package Specification; ComponentLink3URL: http://www.infineon.com/dgdl/SOT23-Package_Overview.pdf?folderId=db3a30431936bc4b0119532290053c66&fileId=db3a30431936bc4b0119533468123c85
footprint INF-SOT23_N (SOT23, 3-Leads, Body 2.9x1.3 mm, Pitch 0.95 mm, IPC Medium Density)
footprint INF-SOT23_L (SOT23, 3-Leads, Body 2.9x1.3 mm, Pitch 0.95 mm, IPC High Density)
footprint INF-SOT23_M (SOT23, 3-Leads, Body 2.9x1.3 mm, Pitch 0.95 mm, IPC Low Density)
pins: 1 B, 2 E, 3 C

## BCW60C
designator Q?
NPN Silicon AF Transistor, 32 V VCEO, 100 mA IC, SOT23, Reel, Green; Manufacturer: Infineon; PartNumber: BCW60C; F (typ): 2 dB; fT (typ): 250 MHz; Green: TRUE; IBM (max): 200 mA; IC (max): 100 mA; ICBO (max): 20 nA; Ptot (max): 330 mW; VCBO (max): 32 V; VEBO (max): 6 V; PackageVersion: Apr-08; PackageReference: SOT23; PackageDescription: 3-Pin Small Outline Transistor Package, 1.3 x 2.9 mm Body, 0.95 mm Pitch; Supplier 1: Arrow; Supplier Part Number 1: SwUuOLYa2CQ6oFX7c6wWiErjUMZPc1hrDRDOGt4e6VM; ICM (max): 200 mA; Packing: Reel; Polarity: NPN; VCEO (max): 32 V; Mounting Technology: Surface Mount; ComponentLink1Description: Manufacturer URL; ComponentLink1URL: http://www.infineon.com/; ComponentLink2Description: Datasheet; ComponentLink2URL: http://www.infineon.com/dgdl/bcw60_bcx70.pdf?folderId=db3a30431f848401011fcbf2ab4c04c4&fileId=db3a30432f91014f012fb516e6041665; ComponentLink3Description: Package Specification; ComponentLink3URL: http://www.infineon.com/dgdl/SOT23-Package_Overview.pdf?folderId=db3a30431936bc4b0119532290053c66&fileId=db3a30431936bc4b0119533468123c85
footprint INF-SOT23_N (SOT23, 3-Leads, Body 2.9x1.3 mm, Pitch 0.95 mm, IPC Medium Density)
footprint INF-SOT23_L (SOT23, 3-Leads, Body 2.9x1.3 mm, Pitch 0.95 mm, IPC High Density)
footprint INF-SOT23_M (SOT23, 3-Leads, Body 2.9x1.3 mm, Pitch 0.95 mm, IPC Low Density)
pins: 1 B, 2 E, 3 C

## BCW60D
designator Q?
NPN Silicon AF Transistor, 32 V VCEO, 100 mA IC, SOT23, Reel, Green; Manufacturer: Infineon; PartNumber: BCW60D; F (typ): 2 dB; fT (typ): 250 MHz; Green: TRUE; IBM (max): 200 mA; IC (max): 100 mA; ICBO (max): 20 nA; Ptot (max): 330 mW; VCBO (max): 32 V; VEBO (max): 6 V; PackageVersion: Apr-08; PackageReference: SOT23; PackageDescription: 3-Pin Small Outline Transistor Package, 1.3 x 2.9 mm Body, 0.95 mm Pitch; ICM (max): 200 mA; Packing: Reel; Polarity: NPN; VCEO (max): 32 V; Mounting Technology: Surface Mount; ComponentLink1Description: Manufacturer URL; ComponentLink1URL: http://www.infineon.com/; ComponentLink2Description: Datasheet; ComponentLink2URL: http://www.infineon.com/dgdl/bcw60_bcx70.pdf?folderId=db3a30431f848401011fcbf2ab4c04c4&fileId=db3a30432f91014f012fb516e6041665; ComponentLink3Description: Package Specification; ComponentLink3URL: http://www.infineon.com/dgdl/SOT23-Package_Overview.pdf?folderId=db3a30431936bc4b0119532290053c66&fileId=db3a30431936bc4b0119533468123c85
footprint INF-SOT23_N (SOT23, 3-Leads, Body 2.9x1.3 mm, Pitch 0.95 mm, IPC Medium Density)
footprint INF-SOT23_L (SOT23, 3-Leads, Body 2.9x1.3 mm, Pitch 0.95 mm, IPC High Density)
footprint INF-SOT23_M (SOT23, 3-Leads, Body 2.9x1.3 mm, Pitch 0.95 mm, IPC Low Density)
pins: 1 B, 2 E, 3 C

## BCW60FF
designator Q?
NPN Silicon AF Transistor, 32 V VCEO, 100 mA IC, SOT23, Reel, Green; Manufacturer: Infineon; PartNumber: BCW60FF; F (typ): 1 dB; fT (typ): 250 MHz; Green: TRUE; IC: 2 mA; IC (max): 100 mA; ICBO (max): 20 nA; ICM (max): 200 mA; VCBO (max): 32 V; VCE: 5 V; VEBO (max): 6 V; PackageVersion: Apr-08; PackageReference: SOT23; PackageDescription: 3-Pin Small Outline Transistor Package, 1.3 x 2.9 mm Body, 0.95 mm Pitch; Supplier 1: Mouser; Supplier Part Number 1: N/A; Packing: Reel; Polarity: NPN; VCE (max): 5 V; VCEO (max): 32 V; Mounting Technology: Surface Mount; ComponentLink1Description: Manufacturer URL; ComponentLink1URL: http://www.infineon.com/; ComponentLink2Description: Datasheet; ComponentLink2URL: http://www.infineon.com/dgdl/bcw60_bcx70.pdf?folderId=db3a30431f848401011fcbf2ab4c04c4&fileId=db3a30432f91014f012fb516e6041665; ComponentLink3Description: Package Specification; ComponentLink3URL: http://www.infineon.com/dgdl/SOT23-Package_Overview.pdf?folderId=db3a30431936bc4b0119532290053c66&fileId=db3a30431936bc4b0119533468123c85
footprint INF-SOT23_N (SOT23, 3-Leads, Body 2.9x1.3 mm, Pitch 0.95 mm, IPC Medium Density)
footprint INF-SOT23_L (SOT23, 3-Leads, Body 2.9x1.3 mm, Pitch 0.95 mm, IPC High Density)
footprint INF-SOT23_M (SOT23, 3-Leads, Body 2.9x1.3 mm, Pitch 0.95 mm, IPC Low Density)
pins: 1 B, 2 E, 3 C

## BCW61A
designator Q?
PNP Silicon AF Transistor, 32 V VCEO, 100 mA IC, SOT23, Reel, Green; Manufacturer: Infineon; PartNumber: BCW61A; fT (typ): 250 MHz; Green: TRUE; IBM (max): 200 mA; IC (max): 100 mA; ICBO (max): 20 nA; Ptot (max): 330 mW; VCBO (max): 32 V; VEBO (max): 5 V; PackageVersion: Apr-08; PackageReference: SOT23; PackageDescription: 3-Pin Small Outline Transistor Package, 1.3 x 2.9 mm Body, 0.95 mm Pitch; Supplier 1: Mouser; Supplier Part Number 1: N/A; ICM (max): 200 mA; Packing: Reel; Polarity: PNP; VCEO (max): 32 V; Mounting Technology: Surface Mount; ComponentLink1Description: Manufacturer URL; ComponentLink1URL: http://www.infineon.com/; ComponentLink2Description: Datasheet; ComponentLink2URL: http://www.infineon.com/dgdl/bcw61_bcx71.pdf?folderId=db3a304314dca389011541d30fa21656&fileId=db3a304314dca3890115422f2cbc173b; ComponentLink3Description: Package Specification; ComponentLink3URL: http://www.infineon.com/dgdl/SOT23-Package_Overview.pdf?folderId=db3a30431936bc4b0119532290053c66&fileId=db3a30431936bc4b0119533468123c85
footprint INF-SOT23_N (SOT23, 3-Leads, Body 2.9x1.3 mm, Pitch 0.95 mm, IPC Medium Density)
footprint INF-SOT23_L (SOT23, 3-Leads, Body 2.9x1.3 mm, Pitch 0.95 mm, IPC High Density)
footprint INF-SOT23_M (SOT23, 3-Leads, Body 2.9x1.3 mm, Pitch 0.95 mm, IPC Low Density)
pins: 1 B, 2 E, 3 C

## BCW61B
designator Q?
PNP Silicon AF Transistor, 32 V VCEO, 100 mA IC, SOT23, Reel, Green; Manufacturer: Infineon; PartNumber: BCW61B; fT (typ): 250 MHz; Green: TRUE; IBM (max): 200 mA; IC (max): 100 mA; ICBO (max): 20 nA; Ptot (max): 330 mW; VCBO (max): 32 V; VEBO (max): 5 V; PackageVersion: Apr-08; PackageReference: SOT23; PackageDescription: 3-Pin Small Outline Transistor Package, 1.3 x 2.9 mm Body, 0.95 mm Pitch; ICM (max): 200 mA; Packing: Reel; Polarity: PNP; VCEO (max): 32 V; Mounting Technology: Surface Mount; ComponentLink1Description: Manufacturer URL; ComponentLink1URL: http://www.infineon.com/; ComponentLink2Description: Datasheet; ComponentLink2URL: http://www.infineon.com/dgdl/bcw61_bcx71.pdf?folderId=db3a304314dca389011541d30fa21656&fileId=db3a304314dca3890115422f2cbc173b; ComponentLink3Description: Package Specification; ComponentLink3URL: http://www.infineon.com/dgdl/SOT23-Package_Overview.pdf?folderId=db3a30431936bc4b0119532290053c66&fileId=db3a30431936bc4b0119533468123c85
footprint INF-SOT23_N (SOT23, 3-Leads, Body 2.9x1.3 mm, Pitch 0.95 mm, IPC Medium Density)
footprint INF-SOT23_L (SOT23, 3-Leads, Body 2.9x1.3 mm, Pitch 0.95 mm, IPC High Density)
footprint INF-SOT23_M (SOT23, 3-Leads, Body 2.9x1.3 mm, Pitch 0.95 mm, IPC Low Density)
pins: 1 B, 2 E, 3 C

## BCW61C
designator Q?
PNP Silicon AF Transistor, 32 V VCEO, 100 mA IC, SOT23, Reel, Green; Manufacturer: Infineon; PartNumber: BCW61C; fT (typ): 250 MHz; Green: TRUE; IBM (max): 200 mA; IC (max): 100 mA; ICBO (max): 20 nA; Ptot (max): 330 mW; VCBO (max): 32 V; VEBO (max): 5 V; PackageVersion: Apr-08; PackageReference: SOT23; PackageDescription: 3-Pin Small Outline Transistor Package, 1.3 x 2.9 mm Body, 0.95 mm Pitch; ICM (max): 200 mA; Packing: Reel; Polarity: PNP; VCEO (max): 32 V; Mounting Technology: Surface Mount; ComponentLink1Description: Manufacturer URL; ComponentLink1URL: http://www.infineon.com/; ComponentLink2Description: Datasheet; ComponentLink2URL: http://www.infineon.com/dgdl/bcw61_bcx71.pdf?folderId=db3a304314dca389011541d30fa21656&fileId=db3a304314dca3890115422f2cbc173b; ComponentLink3Description: Package Specification; ComponentLink3URL: http://www.infineon.com/dgdl/SOT23-Package_Overview.pdf?folderId=db3a30431936bc4b0119532290053c66&fileId=db3a30431936bc4b0119533468123c85
footprint INF-SOT23_N (SOT23, 3-Leads, Body 2.9x1.3 mm, Pitch 0.95 mm, IPC Medium Density)
footprint INF-SOT23_L (SOT23, 3-Leads, Body 2.9x1.3 mm, Pitch 0.95 mm, IPC High Density)
footprint INF-SOT23_M (SOT23, 3-Leads, Body 2.9x1.3 mm, Pitch 0.95 mm, IPC Low Density)
pins: 1 B, 2 E, 3 C

## BCW61D
designator Q?
PNP Silicon AF Transistor, 32 V VCEO, 100 mA IC, SOT23, Reel, Green; Manufacturer: Infineon; PartNumber: BCW61D; fT (typ): 250 MHz; Green: TRUE; IBM (max): 200 mA; IC (max): 100 mA; ICBO (max): 20 nA; Ptot (max): 330 mW; VCBO (max): 32 V; VEBO (max): 5 V; PackageVersion: Apr-08; PackageReference: SOT23; PackageDescription: 3-Pin Small Outline Transistor Package, 1.3 x 2.9 mm Body, 0.95 mm Pitch; ICM (max): 200 mA; Packing: Reel; Polarity: PNP; VCEO (max): 32 V; Mounting Technology: Surface Mount; ComponentLink1Description: Manufacturer URL; ComponentLink1URL: http://www.infineon.com/; ComponentLink2Description: Datasheet; ComponentLink2URL: http://www.infineon.com/dgdl/bcw61_bcx71.pdf?folderId=db3a304314dca389011541d30fa21656&fileId=db3a304314dca3890115422f2cbc173b; ComponentLink3Description: Package Specification; ComponentLink3URL: http://www.infineon.com/dgdl/SOT23-Package_Overview.pdf?folderId=db3a30431936bc4b0119532290053c66&fileId=db3a30431936bc4b0119533468123c85
footprint INF-SOT23_N (SOT23, 3-Leads, Body 2.9x1.3 mm, Pitch 0.95 mm, IPC Medium Density)
footprint INF-SOT23_L (SOT23, 3-Leads, Body 2.9x1.3 mm, Pitch 0.95 mm, IPC High Density)
footprint INF-SOT23_M (SOT23, 3-Leads, Body 2.9x1.3 mm, Pitch 0.95 mm, IPC Low Density)
pins: 1 B, 2 E, 3 C

## BCW65ALT1G
designator Q?
General Purpose Transistor, NPN Silicon, 3-Pin SOT-23, Pb-Free, Tape and Reel; Manufacturer: On Semiconductor; PartNumber: BCW65ALT1G; fT Min (MHz): 100; IC Continuous (A): 0.8; DatasheetVersion: Rev. 5; PackageVersion: Rev. AP, 11/2009; PackageReference: SOT-23-3-318-08; PackageDescription: 3-Pin Small Outline Transistor, Body 2.92 x 1.3 mm, Pitch 0.95 mm; Supplier 1: Digi-Key; Supplier Part Number 1: BCW65ALT1GOSTR-ND; Supplier 2: Digi-Key; Supplier Part Number 2: BCW65ALT1GOSCT-ND; Supplier 3: Newark; Supplier Part Number 3: 45J0569; Supplier 4: Mouser; Supplier Part Number 4: 863-BCW65ALT1G; Packing: Tape and Reel; Polarity: NPN; RoHS: TRUE; Mounting Technology: Surface Mount; ComponentLink1Description: Manufacturer URL; ComponentLink1URL: http://www.onsemi.com/; ComponentLink2Description: Datasheet; ComponentLink2URL: http://www.onsemi.com/pub_link/Collateral/BCW65ALT1-D.PDF; ComponentLink3Description: Package Specification; ComponentLink3URL: http://www.onsemi.cn/pub_link/Collateral/318-08.PDF
footprint ONSC-SOT-23-3-318-08_V (SOT23, 3-Leads, Body 2.92x1.3mm, Pitch 0.95mm)
pins: 1 B, 2 E, 3 C

## BCW65CLT1
designator Q?
General Purpose Transistor, NPN Silicon, 3-Pin SOT-23, Tape and Reel; Manufacturer: On Semiconductor; PartNumber: BCW65CLT1; fT Min (MHz): 100; IC Continuous (A): 0.8; DatasheetVersion: Rev. 5; PackageVersion: Rev. AP, 11/2009; PackageReference: SOT-23-3-318-08; PackageDescription: 3-Pin Small Outline Transistor, Body 2.92 x 1.3 mm, Pitch 0.95 mm; Supplier 1: Digi-Key; Supplier Part Number 1: BCW65CLT1-ND; Packing: Tape and Reel; Polarity: NPN; RoHS: FALSE; Mounting Technology: Surface Mount; ComponentLink1Description: Manufacturer URL; ComponentLink1URL: http://www.onsemi.com/; ComponentLink2Description: Datasheet; ComponentLink2URL: http://www.onsemi.com/pub_link/Collateral/BCW65ALT1-D.PDF; ComponentLink3Description: Package Specification; ComponentLink3URL: http://www.onsemi.cn/pub_link/Collateral/318-08.PDF
footprint ONSC-SOT-23-3-318-08_V (SOT23, 3-Leads, Body 2.92x1.3mm, Pitch 0.95mm)
pins: 1 B, 2 E, 3 C

## BCW65CLT1G
designator Q?
General Purpose Transistor, NPN Silicon, 3-Pin SOT-23, Pb-Free, Tape and Reel; Manufacturer: On Semiconductor; PartNumber: BCW65CLT1G; fT Min (MHz): 100; IC Continuous (A): 0.8; DatasheetVersion: Rev. 5; PackageVersion: Rev. AP, 11/2009; PackageReference: SOT-23-3-318-08; PackageDescription: 3-Pin Small Outline Transistor, Body 2.92 x 1.3 mm, Pitch 0.95 mm; Supplier 1: Digi-Key; Supplier Part Number 1: BCW65CLT1GOSTR-ND; Supplier 2: Digi-Key; Supplier Part Number 2: BCW65CLT1GOSCT-ND; Supplier 3: Digi-Key; Supplier Part Number 3: BCW65CLT1GOSDKR-ND; Supplier 4: Mouser; Supplier Part Number 4: 863-BCW65CLT1G; Packing: Tape and Reel; Polarity: NPN; RoHS: TRUE; Mounting Technology: Surface Mount; ComponentLink1Description: Manufacturer URL; ComponentLink1URL: http://www.onsemi.com/; ComponentLink2Description: Datasheet; ComponentLink2URL: http://www.onsemi.com/pub_link/Collateral/BCW65ALT1-D.PDF; ComponentLink3Description: Package Specification; ComponentLink3URL: http://www.onsemi.cn/pub_link/Collateral/318-08.PDF
footprint ONSC-SOT-23-3-318-08_V (SOT23, 3-Leads, Body 2.92x1.3mm, Pitch 0.95mm)
pins: 1 B, 2 E, 3 C

## BCW66GLT1
designator Q?
General Purpose Transistor, NPN Silicon, 3-Pin SOT-23, Tape and Reel; Manufacturer: On Semiconductor; PartNumber: BCW66GLT1; fT Min (MHz): 100; IC Continuous (A): 0.8; DatasheetVersion: Rev. 5; PackageVersion: Rev. AP, 11/2009; PackageReference: SOT-23-3-318-08; PackageDescription: 3-Pin Small Outline Transistor, Body 2.92 x 1.3 mm, Pitch 0.95 mm; Supplier 1: Digi-Key; Supplier Part Number 1: BCW66GLT1-ND; Packing: Tape and Reel; Polarity: NPN; RoHS: FALSE; Mounting Technology: Surface Mount; ComponentLink1Description: Manufacturer URL; ComponentLink1URL: http://www.onsemi.com/; ComponentLink2Description: Datasheet; ComponentLink2URL: http://www.onsemi.com/pub_link/Collateral/BCW66GLT1-D.PDF; ComponentLink3Description: Package Specification; ComponentLink3URL: http://www.onsemi.cn/pub_link/Collateral/318-08.PDF
footprint ONSC-SOT-23-3-318-08_V (SOT23, 3-Leads, Body 2.92x1.3mm, Pitch 0.95mm)
pins: 1 B, 2 E, 3 C

## BCW66GLT1G
designator Q?
General Purpose Transistor, NPN Silicon, 3-Pin SOT-23, Pb-Free, Tape and Reel; Manufacturer: On Semiconductor; PartNumber: BCW66GLT1G; fT Min (MHz): 100; IC Continuous (A): 0.8; DatasheetVersion: Rev. 5; PackageVersion: Rev. AP, 11/2009; PackageReference: SOT-23-3-318-08; PackageDescription: 3-Pin Small Outline Transistor, Body 2.92 x 1.3 mm, Pitch 0.95 mm; Supplier 1: Digi-Key; Supplier Part Number 1: BCW66GLT1GOSTR-ND; Supplier 2: Digi-Key; Supplier Part Number 2: BCW66GLT1GOSCT-ND; Supplier 3: Digi-Key; Supplier Part Number 3: BCW66GLT1GOSDKR-ND; Supplier 4: Farnell; Supplier Part Number 4: 2317524; Supplier 5: Newark; Supplier Part Number 5: 90W4252; Supplier 6: Newark; Supplier Part Number 6: 26K3375; Supplier 7: Mouser; Supplier Part Number 7: 863-BCW66GLT1G; Packing: Tape and Reel; Polarity: NPN; RoHS: TRUE; Mounting Technology: Surface Mount; ComponentLink1Description: Manufacturer URL; ComponentLink1URL: http://www.onsemi.com/; ComponentLink2Description: Datasheet; ComponentLink2URL: http://www.onsemi.com/pub_link/Collateral/BCW66GLT1-D.PDF; ComponentLink3Description: Package Specification; ComponentLink3URL: http://www.onsemi.cn/pub_link/Collateral/318-08.PDF
footprint ONSC-SOT-23-3-318-08_V (SOT23, 3-Leads, Body 2.92x1.3mm, Pitch 0.95mm)
pins: 1 B, 2 E, 3 C

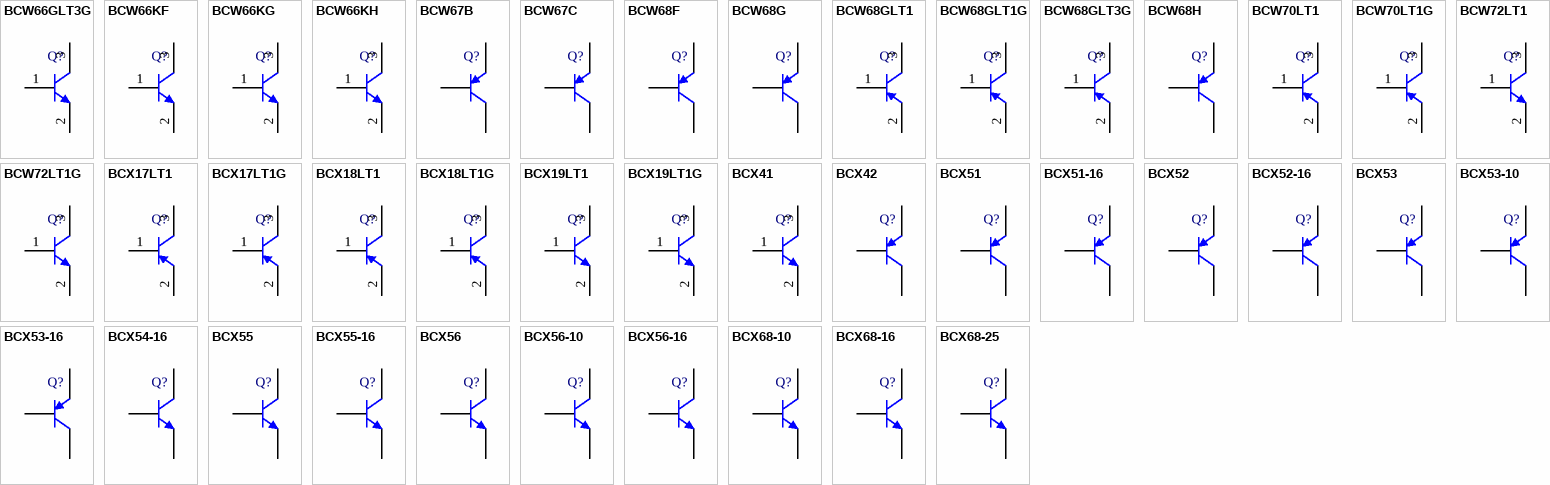
[diagram p26: symbols BCW66GLT3G to BCX68-25]

## BCW66GLT3G
designator Q?
General Purpose Transistor, NPN Silicon, 3-Pin SOT-23, Pb-Free, Tape and Reel; Manufacturer: On Semiconductor; PartNumber: BCW66GLT3G; fT Min (MHz): 100; IC Continuous (A): 0.8; DatasheetVersion: Rev. 5; PackageVersion: Rev. AP, 11/2009; PackageReference: SOT-23-3-318-08; PackageDescription: 3-Pin Small Outline Transistor, Body 2.92 x 1.3 mm, Pitch 0.95 mm; Supplier 1: Digi-Key; Supplier Part Number 1: BCW66GLT3G-ND; Supplier 2: Mouser; Supplier Part Number 2: 863-BCW66GLT3G; Packing: Tape and Reel; Polarity: NPN; RoHS: TRUE; Mounting Technology: Surface Mount; ComponentLink1Description: Manufacturer URL; ComponentLink1URL: http://www.onsemi.com/; ComponentLink2Description: Datasheet; ComponentLink2URL: http://www.onsemi.com/pub_link/Collateral/BCW66GLT1-D.PDF; ComponentLink3Description: Package Specification; ComponentLink3URL: http://www.onsemi.cn/pub_link/Collateral/318-08.PDF
footprint ONSC-SOT-23-3-318-08_V (SOT23, 3-Leads, Body 2.92x1.3mm, Pitch 0.95mm)
pins: 1 B, 2 E, 3 C

## BCW66KF
designator Q?
NPN Silicon AF Transistor, 45 V VCEO, 800 mA IC, SOT23, Reel, Green; Manufacturer: Infineon; PartNumber: BCW66KF; fT (typ): 170 MHz; Green: TRUE; IBM (max): 200 mA; IC: 100 mA; IC (max): 800 mA; ICBO (max): 20 nA; ICM (max): 1,000 mA; Ptot (max): 500 mW; VCBO (max): 75 V; VCE: 1 V; VCEO (max): 45 V; VEBO (max): 5 V; PackageVersion: Apr-08; PackageReference: SOT23; PackageDescription: 3-Pin Small Outline Transistor Package, 1.3 x 2.9 mm Body, 0.95 mm Pitch; Supplier 1: Mouser; Supplier Part Number 1: N/A; Packing: Reel; Polarity: NPN; Mounting Technology: Surface Mount; ComponentLink1Description: Manufacturer URL; ComponentLink1URL: http://www.infineon.com/; ComponentLink2Description: Datasheet; ComponentLink2URL: http://www.infineon.com/dgdl/bcw66k.pdf?folderId=db3a304314dca389011545f4eb561884&fileId=db3a304314dca389011547504ebe1a07; ComponentLink3Description: Package Specification; ComponentLink3URL: http://www.infineon.com/dgdl/SOT23-Package_Overview.pdf?folderId=db3a30431936bc4b0119532290053c66&fileId=db3a30431936bc4b0119533468123c85
footprint INF-SOT23_N (SOT23, 3-Leads, Body 2.9x1.3 mm, Pitch 0.95 mm, IPC Medium Density)
footprint INF-SOT23_L (SOT23, 3-Leads, Body 2.9x1.3 mm, Pitch 0.95 mm, IPC High Density)
footprint INF-SOT23_M (SOT23, 3-Leads, Body 2.9x1.3 mm, Pitch 0.95 mm, IPC Low Density)
pins: 1 B, 2 E, 3 C